# Altium integrated library Acoustic.IntLib: 3 symbols
Pins are listed as number, name and electrical type; pins without a type are passive.

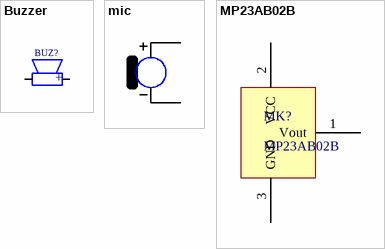
[diagram p0: symbols Buzzer to MP23AB02B]

## Buzzer
designator BUZ?  (value not drawn)
Active buzzer 5v
footprint BUZ12X7,6MM
footprint BUZ12X7,6MM with sticker
pins: 1, 2
text: +

## mic
designator MK?  (value not drawn)
Microphone; Value: *
footprint mic mobile 1
pins: +, -

## MP23AB02B
designator MK?
Active microphone
footprint RHLGA 3
pins: 1 Vout, 2 VCC, 3 GND